# Altium footprint library 16-LGA_3x3.PcbLib: 1 footprints
Each footprint in its own frame and in the unit in brackets; x right, y up, seen from the top. Pads: shape width x height; smd on the part's side, far side on the other; paste and mask are expansions set on the pad; w line width, h text height; cw(c..) or ccw(c..) is an arc to the next point about the centre after c.
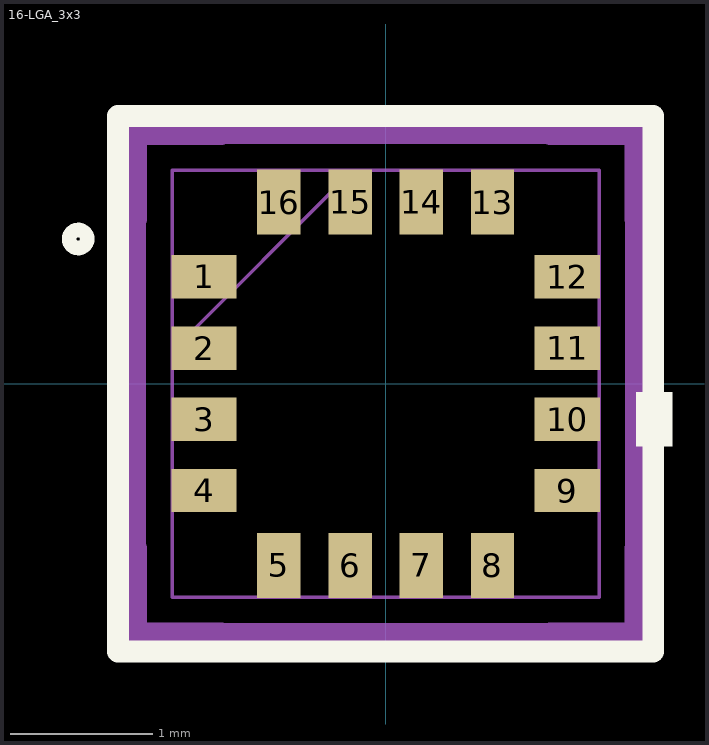
[diagram p0: the footprint, top view; thin cyan lines are the x and y axes]

## 16-LGA_3x3 [mm]
pads (16):
  rect 0.457x0.305 smd paste+0 mask+0: 1(-1.275,0.75) 2(-1.275,0.25) 3(-1.275,-0.25) 4(-1.275,-0.75) 9(1.275,-0.75) 10(1.275,-0.25) 11(1.275,0.25) 12(1.275,0.75)
  rect 0.305x0.457 smd paste+0 mask+0: 5(-0.75,-1.275) 6(-0.25,-1.275) 7(0.25,-1.275) 8(0.75,-1.275) 13(0.75,1.275) 14(0.25,1.275) 15(-0.25,1.275) 16(-0.75,1.275)
Top Overlay:
  circle w0.102: c-2.159,1.016 r0.064
  region: 1.758,-0.059 2.012,-0.059 2.012,-0.44 1.758,-0.44
  lines w0.152: -1.88,-1.88 -1.88,1.88 1.88,1.88 1.88,-1.88 -1.88,-1.88
Top 3D Body:
  lines w0.025: -1.499,0.229 -0.229,1.499 ; -1.499,-1.499 -1.499,1.499 1.499,1.499 1.499,-1.499 -1.499,-1.499
Top Courtyard:
  lines w0.152: -1.758,-1.156 -1.758,1.156 -1.753,1.156 -1.753,1.753 -1.156,1.753 -1.156,1.758 1.156,1.758 1.156,1.753 1.753,1.753 1.753,1.156 1.758,1.156 1.758,-1.156 1.753,-1.156 1.753,-1.753 1.156,-1.753 1.156,-1.758 -1.156,-1.758 -1.156,-1.753 -1.753,-1.753 -1.753,-1.156 -1.758,-1.156
3D body "MMC5983MA_MEM.step": height 0.99, standoff 0, extent -1.549,-1.549 1.549,1.549